# EAGLE library part TCA9534 (library texas1)
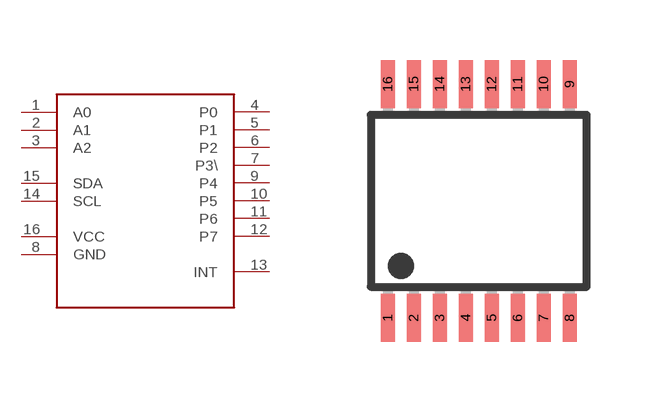
[diagram p127: symbol with the pads of TSSOP16; footprint TSSOP16]

Designator prefix -

## TCA9534TSS  [TSSOP16]
1  A0  in
2  A1  in
3  A2  in
4  P0
5  P1
6  P2
7  P3\
8  GND  pwr
9  P4
10  P5
11  P6
12  P7
13  INT  out
14  SCL
15  SDA
16  VCC  pwr

## Footprint TSSOP16 (pad centres in mm)
PW (R-PDSO-G8) Source: http://focus.ti.com/lit/ds/symlink/ads1271.pdf
smd 0.35 x 1.2: 1 -2.275,-2.925; 2 -1.625,-2.925; 3 -0.975,-2.925; 4 -0.325,-2.925; 5 0.325,-2.925; 6 0.975,-2.925; 7 1.625,-2.925; 8 2.275,-2.925; 9 2.275,2.925; 10 1.625,2.925; 11 0.975,2.925; 12 0.325,2.925; 13 -0.325,2.925; 14 -0.975,2.925; 15 -1.625,2.925; 16 -2.275,2.925